# Altium footprint library V_4.PcbLib: 4 footprints
Each footprint in its own frame and in the unit in brackets; x right, y up, seen from the top. Pads: shape width x height; smd on the part's side, far side on the other; paste and mask are expansions set on the pad; w line width, h text height; cw(c..) or ccw(c..) is an arc to the next point about the centre after c.
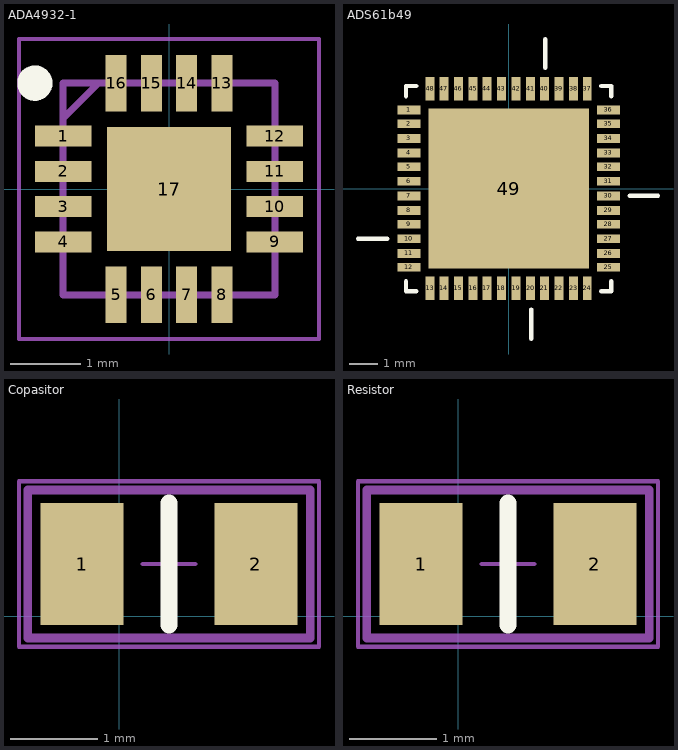
[diagram p0: the footprints below, top view; thin cyan lines are the x and y axes]

## ADA4932-1 [mm]
pads (17):
  rect 0.8x0.3 smd: 1(-1.5,0.75) 2(-1.5,0.25) 3(-1.5,-0.25) 4(-1.5,-0.75) 9(1.5,-0.75) 10(1.5,-0.25) 11(1.5,0.25) 12(1.5,0.75)
  rect 0.3x0.8 smd: 5(-0.75,-1.5) 6(-0.25,-1.5) 7(0.25,-1.5) 8(0.75,-1.5) 13(0.75,1.5) 14(0.25,1.5) 15(-0.25,1.5) 16(-0.75,1.5)
  rect 1.75x1.75 smd: 17(0,0)
Top Overlay:
  circle w0.25: c-1.9,1.5 r0.125
Mechanical 13:
  lines w0.1: -1.5,1 -1,1.5 ; -1.5,-1.5 1.5,-1.5 1.5,1.5 -1.5,1.5 -1.5,-1.5
Mechanical 15:
  lines w0.05: -2.125,-2.125 2.125,-2.125 2.125,2.125 -2.125,2.125 -2.125,-2.125
3D body "AD8352ACPZ.stp": height 0.8, standoff 0, extent -1.55,-1.55 1.55,1.55

## ADS61b49 [mil]
pads (49):
  rect 32x12 smd: 1(-137,108) 2(-137,89) 3(-137,69) 4(-137,49) 5(-137,30) 6(-137,10) 7(-137,-10) 8(-137,-30) 9(-137,-49) 10(-137,-69) 11(-137,-89) 12(-137,-108) 25(137,-108) 26(137,-89) 27(137,-69) 28(137,-49) 29(137,-30) 30(137,-10) 31(137,10) 32(137,30) 33(137,49) 34(137,69) 35(137,89) 36(137,108)
  rect 12x32 smd: 13(-108,-137) 14(-89,-137) 15(-69,-137) 16(-49,-137) 17(-30,-137) 18(-10,-137) 19(10,-137) 20(30,-137) 21(49,-137) 22(69,-137) 23(89,-137) 24(108,-137) 37(108,137) 38(89,137) 39(69,137) 40(49,137) 41(30,137) 42(10,137) 43(-10,137) 44(-30,137) 45(-49,137) 46(-69,137) 47(-89,137) 48(-108,137)
  rect 220x220 smd: 49(0,0)
Top Overlay:
  lines w6: -207,-69 -167,-69 ; -141,-127 -141,-141 -127,-141 ; -141,127 -141,141 -127,141 ; 31,-206 31,-166 ; 50,166 50,205 ; 127,-141 141,-141 141,-127 ; 127,141 141,141 141,127 ; 166,-10 205,-10
3D body "ADS61B49IRGZT.stp": height 39.37, standoff 0, extent -137.8,-137.8 137.8,137.8

## Copasitor [mm] "0805"
pads (2):
  rect 0.95x1.4 smd: 1(-0.425,0.6) 2(1.575,0.6)
Top Overlay:
  lines w0.2: 0.575,-0.1 0.575,1.3
Mechanical 8:
  lines w0.1: -1.05,-0.25 -1.05,1.45 2.2,1.45 2.2,-0.25 -1.05,-0.25
Mechanical 15:
  lines w0.05: 0.275,0.6 0.875,0.6 ; 0.575,0.3 0.575,0.9 ; -1.15,-0.35 -1.15,1.55 2.3,1.55 2.3,-0.35 -1.15,-0.35
3D body "CAPC2012X90N.stp": height 0.9, standoff 0, extent -0.475,-0.075 1.625,1.275

## Resistor [mm] "0805"
pads (2):
  rect 0.95x1.4 smd: 1(-0.425,0.6) 2(1.575,0.6)
Top Overlay:
  lines w0.2: 0.575,-0.1 0.575,1.3
Mechanical 8:
  lines w0.1: -1.05,-0.25 -1.05,1.45 2.2,1.45 2.2,-0.25 -1.05,-0.25
Mechanical 15:
  lines w0.05: 0.275,0.6 0.875,0.6 ; 0.575,0.3 0.575,0.9 ; -1.15,-0.35 -1.15,1.55 2.3,1.55 2.3,-0.35 -1.15,-0.35
3D body "CAPC2012X90N.stp": height 0.9, standoff 0, extent -0.475,-0.075 1.625,1.275